# Altium schematic symbol library Power Modules.SchLib: 1 symbol
Pins are listed as number, name and electrical type; pins without a type are passive.

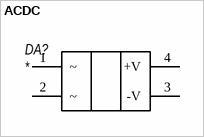
[diagram p0: symbol ACDC]

## ACDC
designator DA?
pins: 1 ~, 2 ~, 3 -V, 4 +V